# EAGLE library part W25M (library W25N)
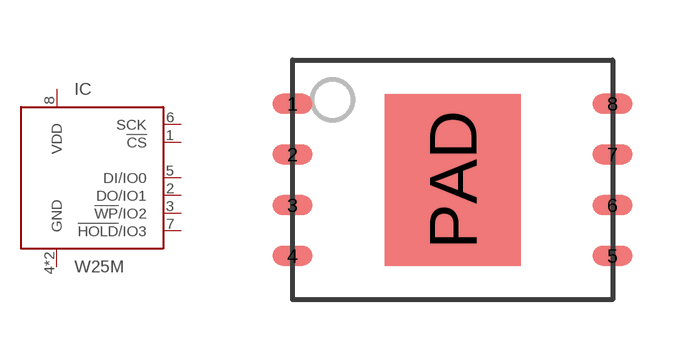
[diagram p1: symbol with the pads of WSON6X8; footprint WSON6X8]

Designator prefix IC

## W25M02GVZEIG (MF: WINBOND; MPN: W25M02GVZEIG)  [WSON6X8]
1  !CS  in
2  DO/IO1
3  !WP!/IO2
4  GND  pwr
5  DI/IO0
6  SCK  in
7  !HOLD!/IO3
8  VDD  pwr
PAD  GND  pwr

## W25M02GVZEIT (MF: WINBOND; MPN: W25M02GVZEIT)  [WSON6X8]
Pads as for WSON6X8

## Footprint WSON6X8 (pad centres in mm)
smd 1 x 0.5: 1 -4,1.905; 2 -4,0.635; 3 -4,-0.635; 4 -4,-1.905; 5 4,-1.905; 6 4,-0.635; 7 4,0.635; 8 4,1.905
smd 3.4 x 4.3: PAD 0,0